# EAGLE library part BLOCK_TERMINAL_5MM_6P (library BlockTerminal_5mm1_2mmDrill)
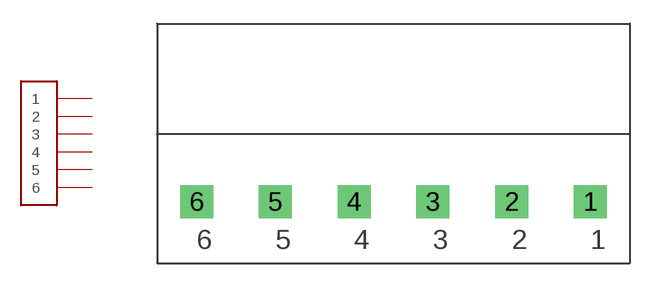
[diagram p0: symbol with the pads of BLOCK_TERMINAL_5MM_6P; footprint BLOCK_TERMINAL_5MM_6P]

Designator prefix -

## BLOCK_TERMINAL_5MM_6P  [BLOCK_TERMINAL_5MM_6P]
1  1
2  2
3  3
4  4
5  5
6  6

## Footprint BLOCK_TERMINAL_5MM_6P (pad centres in mm)
drill 1.397 square: 1 12.5,0; 2 7.5,0; 3 2.5,0; 4 -2.5,0; 5 -7.5,0; 6 -12.5,0